# EAGLE library part LED1642GW (library bytewerk-driver)
16 led driver with 16 bit PWM - Vio=3-5V5 - Vled=20V
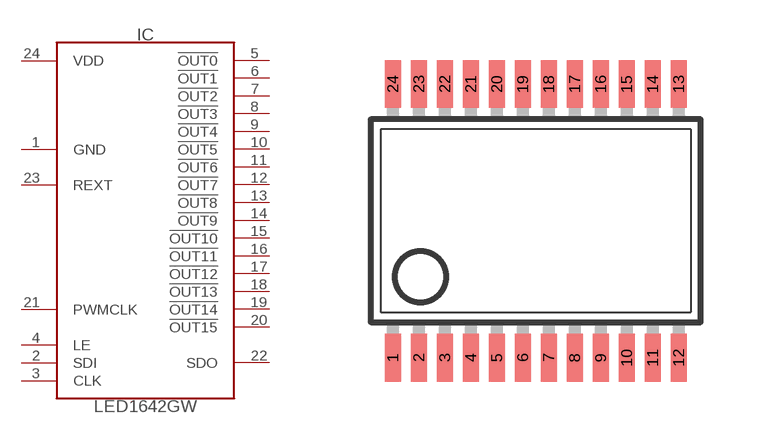
[diagram p2: symbol with the pads of SSOP24; footprint SSOP24]

Designator prefix IC

## LED1642GW (MF: ST Micro; MPN: LED1642GWTTR; OC_DIGIKEY: 497-14030-1-ND)  [SSOP24]
1  GND  pwr
2  SDI  in
3  CLK  in
4  LE  in
5  !OUT0  out
6  !OUT1  out
7  !OUT2  out
8  !OUT3  out
9  !OUT4  out
10  !OUT5  out
11  !OUT6  out
12  !OUT7  out
13  !OUT8  out
14  !OUT9  out
15  !OUT10  out
16  !OUT11  out
17  !OUT12  out
18  !OUT13  out
19  !OUT14  out
20  !OUT15  out
21  PWMCLK  in
22  SDO  out
23  REXT  pas
24  VDD  pwr

## Footprint SSOP24 (pad centres in mm)
Small Shrink Outline Package SOT340-1 / JEDEC MO-150AG
smd 0.4 x 1.2: 1 -3.575,-3.42; 2 -2.925,-3.42; 3 -2.275,-3.42; 4 -1.625,-3.42; 5 -0.975,-3.42; 6 -0.325,-3.42; 7 0.325,-3.42; 8 0.975,-3.42; 9 1.625,-3.42; 10 2.275,-3.42; 11 2.925,-3.42; 12 3.575,-3.42; 13 3.575,3.42; 14 2.925,3.42; 15 2.275,3.42; 16 1.625,3.42; 17 0.975,3.42; 18 0.325,3.42; 19 -0.325,3.42; 20 -0.975,3.42; 21 -1.625,3.42; 22 -2.275,3.42; 23 -2.925,3.42; 24 -3.575,3.42